# EAGLE library part RN-131C (library jkf)
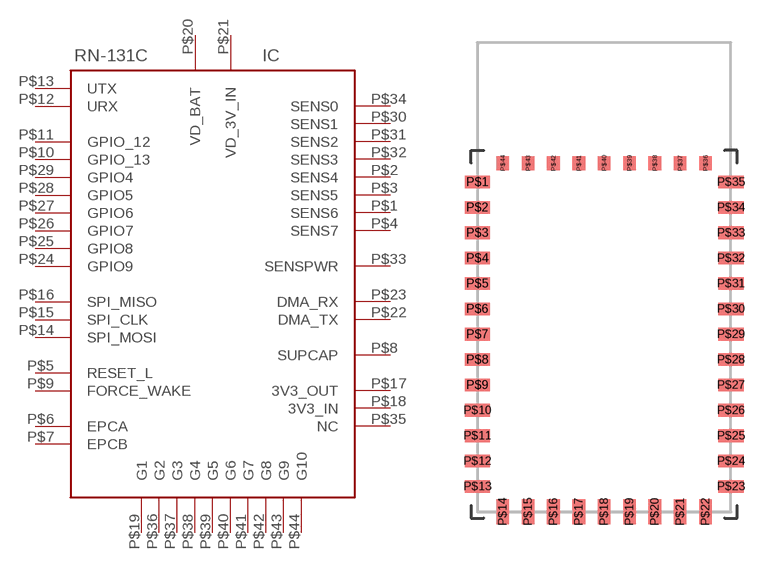
[diagram p5: symbol with the pads of RN-131G; footprint RN-131G]

Designator prefix IC

## RN-131C (DIGIKEY#: 740-1036-ND; MANF: Microchip Technology; MANF#: RN131C/RM)  [RN-131G]
P$1  SENS6
P$2  SENS4
P$3  SENS5
P$4  SENS7
P$5  RESET_L
P$6  EPCA
P$7  EPCB
P$8  SUPCAP
P$9  FORCE_WAKE
P$10  GPIO_13
P$11  GPIO_12
P$12  URX
P$13  UTX
P$14  SPI_MOSI
P$15  SPI_CLK
P$16  SPI_MISO
P$17  3V3_OUT
P$18  3V3_IN
P$19  G1
P$20  VD_BAT
P$21  VD_3V_IN
P$22  DMA_TX
P$23  DMA_RX
P$24  GPIO9
P$25  GPIO8
P$26  GPIO7
P$27  GPIO6
P$28  GPIO5
P$29  GPIO4
P$30  SENS1
P$31  SENS2
P$32  SENS3
P$33  SENSPWR
P$34  SENS0
P$35  NC
P$36  G2
P$37  G3
P$38  G4
P$39  G5
P$40  G6
P$41  G7
P$42  G8
P$43  G9
P$44  G10

## Footprint RN-131G (pad centres in mm)
smd 2 x 1: P$1 -10,12; P$2 -10,10; P$3 -10,8; P$4 -10,6; P$5 -10,4; P$6 -10,2; P$7 -10,0; P$8 -10,-2; P$9 -10,-4; P$10 -10,-6; P$11 -10,-8; P$12 -10,-10; P$13 -10,-12; P$23 10,-12; P$24 10,-10; P$25 10,-8; P$26 10,-6; P$27 10,-4; P$28 10,-2; P$29 10,0; P$30 10,2; P$31 10,4; P$32 10,6; P$33 10,8; P$34 10,10; P$35 10,12
smd 1 x 2: P$14 -8,-14; P$15 -6,-14; P$16 -4,-14; P$17 -2,-14; P$18 0,-14; P$19 2,-14; P$20 4,-14; P$21 6,-14; P$22 8,-14
smd 1 x 1.11: P$36 8,13.492; P$37 6,13.492; P$38 4,13.492; P$39 2,13.492; P$40 0,13.492; P$41 -2,13.492; P$42 -4,13.492; P$43 -6,13.492; P$44 -8,13.492